# EAGLE library part RSM822 (library relpol)
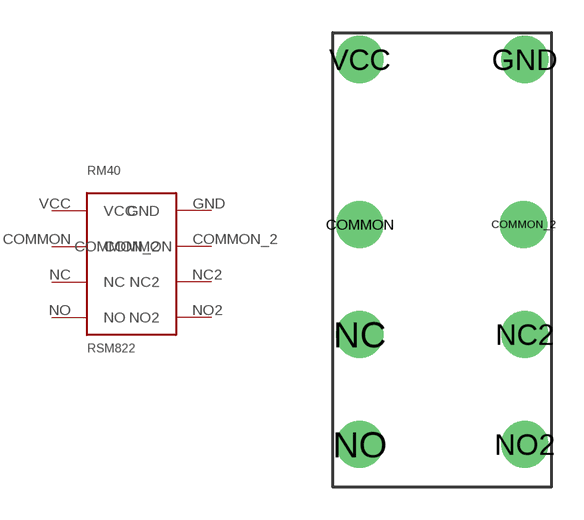
[diagram p0: symbol with the pads of RSM822; footprint RSM822]

Designator prefix RM40

## RSM822  [RSM822]
COMMON  COMMON
COMMON_2  COMMON_2
GND  GND
NC  NC
NC2  NC2
NO  NO
NO2  NO2
VCC  VCC

## Footprint RSM822 (pad centres in mm)
drill 0.6 pad 2.184: COMMON 1.25,-8.87; COMMON_2 8.82,-8.87; GND 8.87,-1.25; NC 1.25,-13.95; NC2 8.87,-13.95; NO 1.25,-19.03; NO2 8.87,-19.03; VCC 1.25,-1.25